# Altium footprint library Connector_HDMI.PcbLib: 7 footprints
Each footprint in its own frame and in the unit in brackets; x right, y up, seen from the top. Pads: shape width x height; smd on the part's side, far side on the other; paste and mask are expansions set on the pad; w line width, h text height; cw(c..) or ccw(c..) is an arc to the next point about the centre after c.
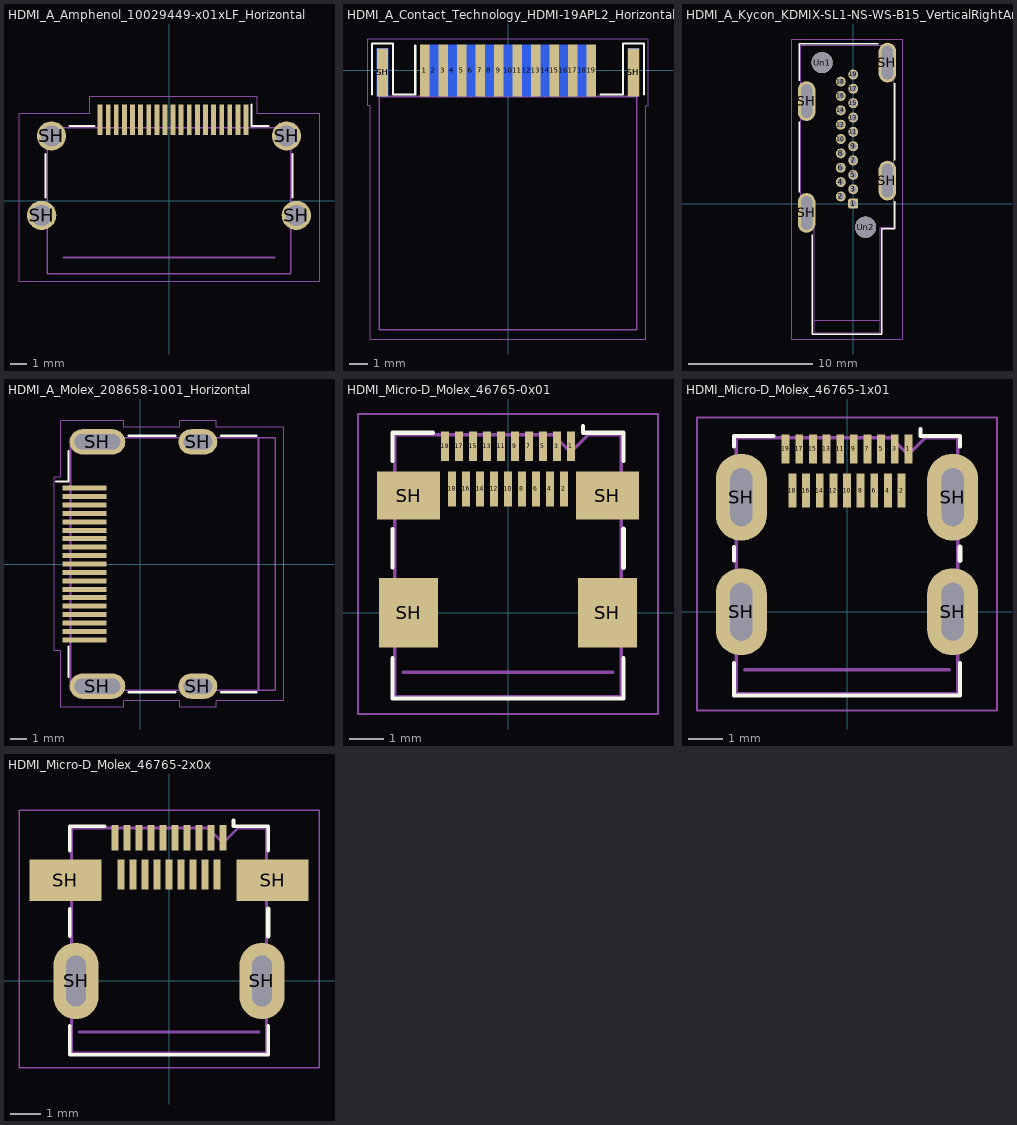
[diagram p0: the footprints below, top view; thin cyan lines are the x and y axes]

## HDMI_A_Amphenol_10029449-x01xLF_Horizontal [mm]
pads (23):
  rect 0.3x1.9 smd: 1(4.75,5) 2(4.25,5) 3(3.75,5) 4(3.25,5) 5(2.75,5) 6(2.25,5) 7(1.75,5) 8(1.25,5) 9(0.75,5) 10(0.25,5) 11(-0.25,5) 12(-0.75,5) 13(-1.25,5) 14(-1.75,5) 15(-2.25,5) 16(-2.75,5) 17(-3.25,5) 18(-3.75,5) 19(-4.25,5)
  round 1.8 hole 1.3: SH(-7.85,-0.9) SH(-7.25,4) SH(7.25,4) SH(7.85,-0.9)
F.SilkS:
  lines w0.12: -7.62,0.2 -7.62,2.9 ; -6.15,4.62 -4.6,4.62 ; 5.1,5.95 5.1,4.62 6.15,4.62 ; 7.62,0.2 7.62,2.9
Dwgs.User:
  lines w0.12: -6.5,-3.5 6.5,-3.5
  text "PCB Edge" at -3.447,-4.317 h1
F.CrtYd:
  lines w0.05: -9.25,-5 -9.25,5.4 -4.9,5.4 -4.9,6.45 5.4,6.45 5.4,5.4 9.25,5.4 9.25,-5 -9.25,-5
F.Fab:
  lines w0.1: -7.5,-4.5 7.5,-4.5 7.5,4.5 -7.5,4.5 -7.5,-4.5
  text "'.Designator'" at -4.047,-1.74 h1

## HDMI_A_Contact_Technology_HDMI-19APL2_Horizontal [mm]
pads (23):
  rect 0.5x2.8 smd: 1(-4.5,0) 3(-3.5,0) 5(-2.5,0) 7(-1.5,0) 9(-0.5,0) 11(0.5,0) 13(1.5,0) 15(2.5,0) 17(3.5,0) 19(4.5,0)
  rect 0.5x2.8 smd far side: 2(-4,0) 4(-3,0) 6(-2,0) 8(-1,0) 10(0,0) 12(1,0) 14(2,0) 16(3,0) 18(4,0)
  rect 0.6x2.6 smd far side: SH(-6.775,-0.1) SH(6.775,-0.1)
  rect 0.6x2.6 smd: SH(-6.775,-0.1) SH(6.775,-0.1)
F.SilkS:
  lines w0.12: -7.34,-1.29 -7.34,1.46 -6.21,1.46 -6.21,-1.29 -5.01,-1.29 -5.01,1.34 ; 5.01,-1.29 6.21,-1.29 6.21,1.46 7.34,1.46 7.34,-1.29
B.SilkS:
  lines w0.12: -7.34,-1.29 -7.34,1.46 -6.21,1.46 -6.21,-1.29 -5.01,-1.29 ; 5.01,-1.29 6.21,-1.29 6.21,1.46 7.34,1.46 7.34,-1.29
Dwgs.User:
  lines w0.1: -6.95,-1.4 6.95,-1.4
  text "PCB Edge" at -3.447,-3.017 h1
F.CrtYd:
  lines w0.05: -7.58,-1.9 -7.45,-1.9 -7.45,-14.5 7.45,-14.5 7.45,-1.9 7.58,-1.9 7.58,1.7 -7.58,1.7 -7.58,-1.9
F.Fab:
  lines w0.1: -6.95,-14 6.95,-14 6.95,0.9 6.6,0.9 6.6,-1.4 -6.6,-1.4 -6.6,0.9 -6.95,0.9 -6.95,-14
  text "'.Designator'" at -4.327,-7.95 h1

## HDMI_A_Kycon_KDMIX-SL1-NS-WS-B15_VerticalRightAngle [mm]
pads (25):
  rrect31% 0.8x0.8 hole 0.55: 1(0,0)
  round 0.8 hole 0.55: 2(-1,0.577) 3(0,1.155) 4(-1,1.733) 5(0,2.31) 6(-1,2.887) 7(0,3.465) 8(-1,4.042) 9(0,4.62) 10(-1,5.198) 11(0,5.775) 12(-1,6.352) 13(0,6.93) 14(-1,7.508) 15(0,8.085) 16(-1,8.662) 17(0,9.24) 18(-1,9.817) 19(0,10.395)
  rrect100% 1.4x3.2 hole 2.7 slot 0.9 at 0 deg: SH(-3.75,-0.75) SH(-3.75,8.25) SH(2.75,1.85) SH(2.75,11.35)
  round 1.7 hole 1.7: Un1(-2.5,11.35) Un2(1,-1.9)
F.SilkS:
  lines w0.12: -4.36,0.9 -4.36,6.6 ; -4.36,9.9 -4.36,12.86 2,12.86 ; -3.285,-2.5 -3.285,-10.51 2.285,-10.51 2.285,-2.01 3.36,-2.01 3.36,0.2 ; 3.36,3.5 3.36,9.7
Dwgs.User:
  lines w0.1: -3.175,-9.4 2.175,-9.4
  text "PCB Edge" at -3.947,-9.317 h1
F.CrtYd:
  lines w0.05: -4.95,-10.9 -4.95,13.25 3.95,13.25 3.95,-10.9 -4.95,-10.9
F.Fab:
  lines w0.1: -4.25,-1.9 -4.25,12.75 3.25,12.75 3.25,-1.9 2.175,-1.9 2.175,-10.4 -3.175,-10.4 -3.175,-1.9 -4.25,-1.9
  text "'.Designator'" at -4.547,-4.84 h1

## HDMI_A_Molex_208658-1001_Horizontal [mm]
pads (23):
  rect 2.6x0.3 smd: 1(-3.285,4.5) 2(-3.285,4) 3(-3.285,3.5) 4(-3.285,3) 5(-3.285,2.5) 6(-3.285,2) 7(-3.285,1.5) 8(-3.285,1) 9(-3.285,0.5) 10(-3.285,0) 11(-3.285,-0.5) 12(-3.285,-1) 13(-3.285,-1.5) 14(-3.285,-2) 15(-3.285,-2.5) 16(-3.285,-3) 17(-3.285,-3.5) 18(-3.285,-4) 19(-3.285,-4.5)
  rrect100% 3.3x1.5 hole 0.9 slot 2.7 at 0 deg: SH(-2.525,-7.25) SH(-2.525,7.25)
  rrect100% 2.3x1.5 hole 0.9 slot 1.7 at 0 deg: SH(3.435,-7.25) SH(3.435,7.25)
F.SilkS:
  lines w0.12: -4.985,4.9 -4.235,4.9 -4.235,6.7 ; -4.235,-6.7 -4.235,-4.9 ; -0.685,-7.61 2.115,-7.61 ; -0.685,7.61 2.115,7.61 ; 4.815,-7.61 6.915,-7.61 ; 4.815,7.61 6.915,7.61
Dwgs.User:
  lines w0.1: 7.025,-7.5 7.025,7.5
  text "PCB Edge" at 6.532,-3.447 h1
F.CrtYd:
  lines w0.05: -5.09,-5.15 -4.69,-5.15 -4.69,-8.5 -0.96,-8.5 -0.96,-8.1 2.37,-8.1 2.37,-8.5 4.52,-8.5 4.52,-8.1 8.53,-8.1 8.53,8.1 4.52,8.1 4.52,8.5 2.37,8.5 2.37,8.1 -0.96,8.1 -0.96,8.5 -4.69,8.5 -4.69,5.15 -5.09,5.15 -5.09,-5.15
F.Fab:
  lines w0.1: -4.125,-7.5 8.025,-7.5 8.025,7.5 -4.125,7.5 -4.125,-7.5
  text "'.Designator'" at -2.332,-0.84 h1

## HDMI_Micro-D_Molex_46765-0x01 [mm]
pads (23):
  rect 0.23x0.85 smd: 1(1.8,4.775) 3(1.4,4.775) 5(1,4.775) 7(0.6,4.775) 9(0.2,4.775) 11(-0.2,4.775) 13(-0.6,4.775) 15(-1,4.775) 17(-1.4,4.775) 19(-1.8,4.775)
  rect 0.23x1 smd: 2(1.6,3.55) 4(1.2,3.55) 6(0.8,3.55) 8(0.4,3.55) 10(0,3.55) 12(-0.4,3.55) 14(-0.8,3.55) 16(-1.2,3.55) 18(-1.6,3.55)
  rect 1.7x2 smd: SH(-2.85,0) SH(2.85,0)
  rect 1.8x1.38 smd: SH(-2.85,3.36) SH(2.85,3.36)
F.SilkS:
  lines w0.12: -3.31,-1.3 -3.31,-2.46 3.31,-2.46 3.31,-1.3 ; -3.31,1.3 -3.31,2.4 ; -3.31,4.35 -3.31,5.16 -2.15,5.16 ; 2.15,5.36 2.15,5.16 3.31,5.16 3.31,4.35
  lines w0.15: 3.31,1.3 3.31,2.4
Dwgs.User:
  lines w0.1: -3,-1.7 3,-1.7
F.CrtYd:
  lines w0.05: -4.3,-2.9 -4.3,5.7 4.3,5.7 4.3,-2.9 -4.3,-2.9
F.Fab:
  lines w0.1: -3.25,-2.4 3.25,-2.4 3.25,5.1 2.3,5.1 1.8,4.6 1.3,5.1 -3.25,5.1 -3.25,-2.4
  text "'.Designator'" at -4.047,2.46 h1
Cmts.User:
  text "KEEPOUT" at -2.185,0.02 h0.7

## HDMI_Micro-D_Molex_46765-1x01 [mm]
pads (23):
  rect 0.23x0.85 smd: 1(1.8,4.775) 3(1.4,4.775) 5(1,4.775) 7(0.6,4.775) 9(0.2,4.775) 11(-0.2,4.775) 13(-0.6,4.775) 15(-1,4.775) 17(-1.4,4.775) 19(-1.8,4.775)
  rect 0.23x1 smd: 2(1.6,3.55) 4(1.2,3.55) 6(0.8,3.55) 8(0.4,3.55) 10(0,3.55) 12(-0.4,3.55) 14(-0.8,3.55) 16(-1.2,3.55) 18(-1.6,3.55)
  rrect100% 1.5x2.55 hole 1.7 slot 0.65 at 0 deg: SH(-3.1,0) SH(-3.1,3.36) SH(3.1,0) SH(3.1,3.36)
F.SilkS:
  lines w0.12: -3.31,-1.5 -3.31,-2.46 3.31,-2.46 3.31,-1.5 ; -3.31,1.5 -3.31,1.9 ; -3.31,4.85 -3.31,5.16 -2.15,5.16 ; 2.15,5.36 2.15,5.16 3.31,5.16 3.31,4.85
  lines w0.15: 3.31,1.5 3.31,1.9
Dwgs.User:
  lines w0.1: -3,-1.7 3,-1.7
F.CrtYd:
  lines w0.05: -4.4,-2.9 4.4,-2.9 4.4,5.7 -4.4,5.7 -4.4,-2.9
B.Fab:
  lines w0.1: 1.3,5.1 1.8,4.6
F.Fab:
  lines w0.1: 1.3,5.1 -3.25,5.1 -3.25,-2.4 3.25,-2.4 3.25,5.1 2.3,5.1 1.8,4.6
  text "'.Designator'" at -4.047,2.46 h1
Cmts.User:
  text "KEEPOUT" at -2.185,0.02 h0.7

## HDMI_Micro-D_Molex_46765-2x0x [mm]
pads (23):
  rect 0.23x0.85 smd: 1(1.8,4.775) 3(1.4,4.775) 5(1,4.775) 7(0.6,4.775) 9(0.2,4.775) 11(-0.2,4.775) 13(-0.6,4.775) 15(-1,4.775) 17(-1.4,4.775) 19(-1.8,4.775)
  rect 0.23x1 smd: 2(1.6,3.55) 4(1.2,3.55) 6(0.8,3.55) 8(0.4,3.55) 10(0,3.55) 12(-0.4,3.55) 14(-0.8,3.55) 16(-1.2,3.55) 18(-1.6,3.55)
  rect 2.4x1.38 smd: SH(-3.45,3.36) SH(3.45,3.36)
  rrect100% 1.5x2.55 hole 1.7 slot 0.65 at 0 deg: SH(-3.1,0) SH(3.1,0)
F.SilkS:
  lines w0.12: -3.31,-1.5 -3.31,-2.46 3.31,-2.46 3.31,-1.5 ; -3.31,1.5 -3.31,2.4 ; -3.31,4.35 -3.31,5.16 -2.15,5.16 ; 2.15,5.36 2.15,5.16 3.31,5.16 3.31,4.35
  lines w0.15: 3.31,1.5 3.31,2.4
Dwgs.User:
  lines w0.1: -3,-1.7 3,-1.7
F.CrtYd:
  lines w0.05: -5,-2.9 -5,5.7 5,5.7 5,-2.9 -5,-2.9
F.Fab:
  lines w0.1: -4.45,2.77 -3.25,2.77 -3.25,-2.4 3.25,-2.4 3.25,2.77 4.45,2.77 4.45,3.95 3.25,3.95 3.25,5.1 2.3,5.1 1.8,4.6 1.3,5.1 -3.25,5.1 -3.25,3.95 -4.45,3.95 -4.45,2.77
  text "'.Designator'" at -4.047,2.46 h1
Cmts.User:
  text "KEEPOUT" at -2.185,0.02 h0.7